# EAGLE library part ADM3202 (library mille-feuille)
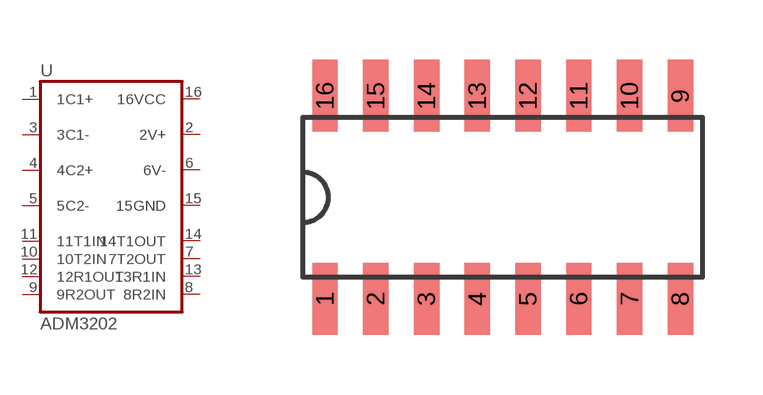
[diagram p7: symbol with the pads of R-16A; footprint R-16A]

Designator prefix U

## ADM3202  [R-16A]
1  1C1+
2  2V+
3  3C1-
4  4C2+
5  5C2-
6  6V-
7  7T2OUT  out
8  8R2IN  in
9  9R2OUT  out
10  10T2IN  in
11  11T1IN  in
12  12R1OUT  out
13  13R1IN  in
14  14T1OUT  out
15  15GND
16  16VCC

## Footprint R-16A (pad centres in mm)
smd 0.635 x 1.8: 1 -4.445,-2.54; 2 -3.175,-2.54; 3 -1.905,-2.54; 4 -0.635,-2.54; 5 0.635,-2.54; 6 1.905,-2.54; 7 3.175,-2.54; 8 4.445,-2.54; 9 4.445,2.54; 10 3.175,2.54; 11 1.905,2.54; 12 0.635,2.54; 13 -0.635,2.54; 14 -1.905,2.54; 15 -3.175,2.54; 16 -4.445,2.54